# EAGLE library part MAXIM-MAX6675 (library FaBo-Sensor)
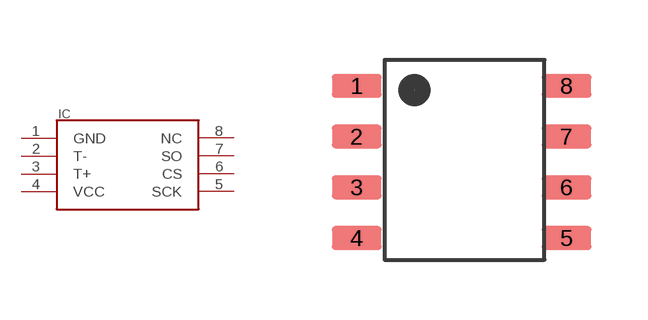
[diagram p8: symbol with the pads of MAXIM-MAX6675; footprint MAXIM-MAX6675]

Designator prefix IC

## MAXIM-MAX6675  [MAXIM-MAX6675]
1  GND
2  T-
3  T+
4  VCC
5  SCK
6  CS
7  SO
8  NC

## Footprint MAXIM-MAX6675 (pad centres in mm)
smd 1.25 x 0.6: 1 -2.95,1.85; 2 -2.95,0.58; 3 -2.95,-0.69; 4 -2.95,-1.96; 5 2.3,-1.96; 6 2.3,-0.69; 7 2.3,0.58; 8 2.3,1.85